# Altium integrated library AD8031ARTZ-REEL7.IntLib: 1 symbol
Pins are listed as number, name and electrical type; pins without a type are passive.

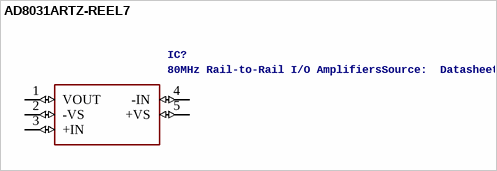
[diagram p0: symbol AD8031ARTZ-REEL7]

## AD8031ARTZ-REEL7
designator IC?, comment 80MHz Rail-to-Rail I/O AmplifiersSource:  Datasheet
Manufacturer_Name: Analog Devices; GateName_1: G$1; SymbolName_1: AD8031ARTZ-REEL7; LibraryName: AD8031ARTZ-REEL7; DeviceSetName: AD8031ARTZ-REEL7; Package: SOT95P290X145-5N; Manufacturer_Part_Number: AD8031ARTZ-REEL7; Arrow_Part_Number: AD8031ARTZ-REEL7; Arrow_Price-Stock: https://www.arrow.com/en/products/ad8031artz-reel7/analog-devices; Description: 80MHz Rail-to-Rail I/O Amplifiers; Height: mm
footprint SOT95P290X145-5N
pins: 1 VOUT (io), 2 -VS (io), 3 +IN (io), 4 -IN (io), 5 +VS (io)